# EAGLE library part TLC5940 (library elovalo)
16-channel 12bit pwm constant current sink with SPI serial interface.
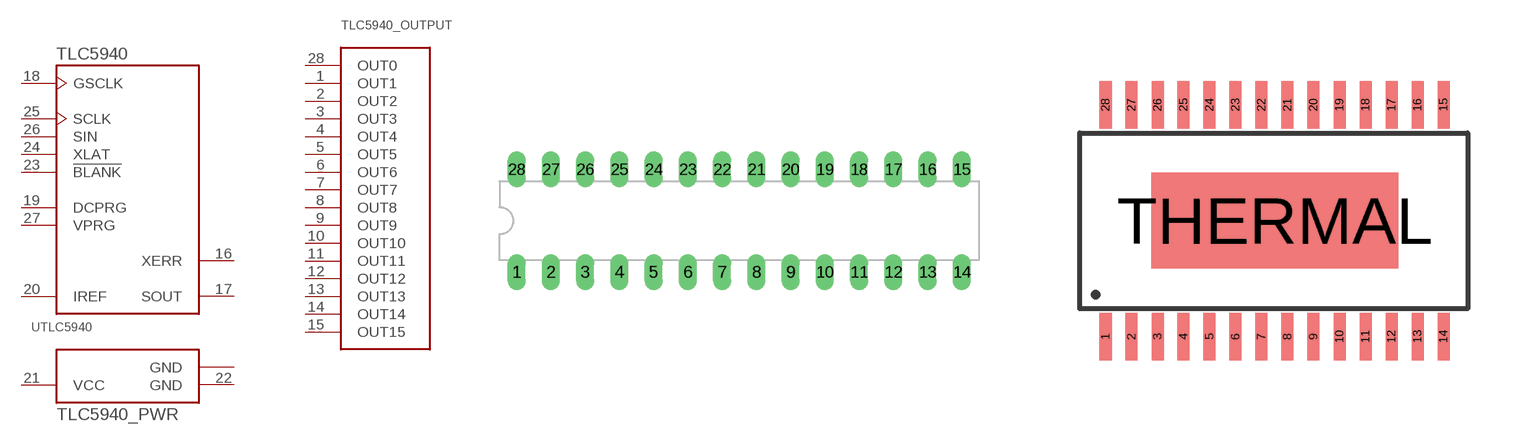
[diagram p0: symbol with the pads of DIL28; footprints DIL28, PWP28]

Designator prefix -; gates TLC5940=TLC5940 TLC5940_PWR=TLC5940_PWR TLC5940_OUTPUT=TLC5940_OUTPUT

## TLC5940TLC5940NT  [DIL28]
1  TLC5940_OUTPUT:OUT1  in
2  TLC5940_OUTPUT:OUT2  in
3  TLC5940_OUTPUT:OUT3  in
4  TLC5940_OUTPUT:OUT4  in
5  TLC5940_OUTPUT:OUT5  in
6  TLC5940_OUTPUT:OUT6  in
7  TLC5940_OUTPUT:OUT7  in
8  TLC5940_OUTPUT:OUT8  in
9  TLC5940_OUTPUT:OUT9  in
10  TLC5940_OUTPUT:OUT10  in
11  TLC5940_OUTPUT:OUT11  in
12  TLC5940_OUTPUT:OUT12  in
13  TLC5940_OUTPUT:OUT13  in
14  TLC5940_OUTPUT:OUT14  in
15  TLC5940_OUTPUT:OUT15  in
16  TLC5940:XERR  out
17  TLC5940:SOUT  out
18  TLC5940:GSCLK  in
19  TLC5940:DCPRG  in
20  TLC5940:IREF  out
21  TLC5940_PWR:VCC  pwr
22  TLC5940_PWR:GND  pwr
23  TLC5940:!BLANK  in
24  TLC5940:XLAT  in
25  TLC5940:SCLK  in
26  TLC5940:SIN  in
27  TLC5940:VPRG  in
28  TLC5940_OUTPUT:OUT0  in

## TLC5940TLC5940PWP  [PWP28]
1  TLC5940_PWR:GND  pwr
2  TLC5940:!BLANK  in
3  TLC5940:XLAT  in
4  TLC5940:SCLK  in
5  TLC5940:SIN  in
6  TLC5940:VPRG  in
7  TLC5940_OUTPUT:OUT0  in
8  TLC5940_OUTPUT:OUT1  in
9  TLC5940_OUTPUT:OUT2  in
10  TLC5940_OUTPUT:OUT3  in
11  TLC5940_OUTPUT:OUT4  in
12  TLC5940_OUTPUT:OUT5  in
13  TLC5940_OUTPUT:OUT6  in
14  TLC5940_OUTPUT:OUT7  in
15  TLC5940_OUTPUT:OUT8  in
16  TLC5940_OUTPUT:OUT9  in
17  TLC5940_OUTPUT:OUT10  in
18  TLC5940_OUTPUT:OUT11  in
19  TLC5940_OUTPUT:OUT12  in
20  TLC5940_OUTPUT:OUT13  in
21  TLC5940_OUTPUT:OUT14  in
22  TLC5940_OUTPUT:OUT15  in
23  TLC5940:XERR  out
24  TLC5940:SOUT  out
25  TLC5940:GSCLK  in
26  TLC5940:DCPRG  in
27  TLC5940:IREF  out
28  TLC5940_PWR:VCC  pwr
THERMAL  TLC5940_PWR:GND  pwr

## Footprint DIL28 (pad centres in mm)
Dual In Line Package Small
drill 0.813 long: 1 -16.51,-3.81; 2 -13.97,-3.81; 3 -11.43,-3.81; 4 -8.89,-3.81; 5 -6.35,-3.81; 6 -3.81,-3.81; 7 -1.27,-3.81; 8 1.27,-3.81; 9 3.81,-3.81; 10 6.35,-3.81; 11 8.89,-3.81; 12 11.43,-3.81; 13 13.97,-3.81; 14 16.51,-3.81; 15 16.51,3.81; 16 13.97,3.81; 17 11.43,3.81; 18 8.89,3.81; 19 6.35,3.81; 20 3.81,3.81; 21 1.27,3.81; 22 -1.27,3.81; 23 -3.81,3.81; 24 -6.35,3.81; 25 -8.89,3.81; 26 -11.43,3.81; 27 -13.97,3.81; 28 -16.51,3.81

## Footprint PWP28 (pad centres in mm)
smd 0.3 x 1.2: 1 -4.229,-2.908; 2 -3.579,-2.908; 3 -2.929,-2.908; 4 -2.279,-2.908; 5 -1.629,-2.908; 6 -0.979,-2.908; 7 -0.329,-2.908; 8 0.321,-2.908; 9 0.971,-2.908; 10 1.621,-2.908; 11 2.271,-2.908; 12 2.921,-2.908; 13 3.571,-2.908; 14 4.221,-2.908; 15 4.221,2.892; 16 3.571,2.892; 17 2.921,2.892; 18 2.271,2.892; 19 1.621,2.892; 20 0.971,2.892; 21 0.321,2.892; 22 -0.329,2.892; 23 -0.979,2.892; 24 -1.629,2.892; 25 -2.279,2.892; 26 -2.929,2.892; 27 -3.579,2.892; 28 -4.229,2.892
smd 6.17 x 2.4: THERMAL 0,0